# Altium integrated library Analog Devices Operational Amplifiers.IntLib: 2102 symbols (part 68 of 70)
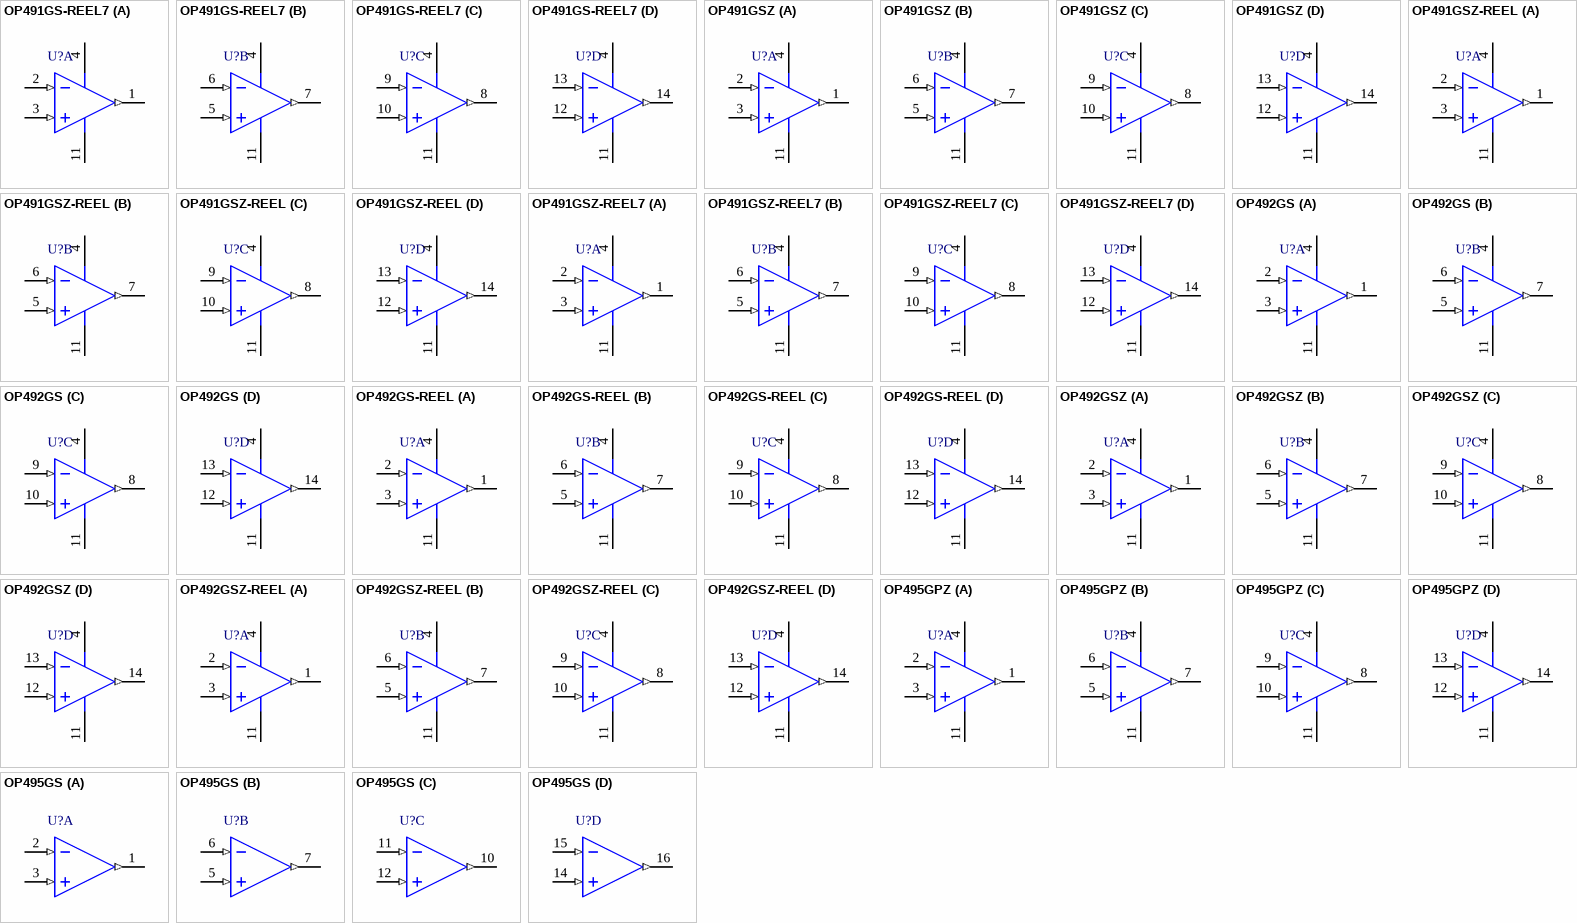
[diagram p181: symbols OP491GS-REEL7 to OP495GS]

## OP492GSZ-REEL
designator U?
Quad Channel Single-Supply Operation Operational Amplifier, 4 MHz BW, 4 V/us SR, Industrial, 14-pin SOIC (R-14), Reel; Generic Part Number: OP492; Manufacturer: Analog Devices; PartNumber: OP492GSZ-REEL; Amplifiers Per Package: 4; Input Bias Current: 375nA; Input Offset Voltage: 1.4mV; Iq/Amp: 1.4mA; Slew Rate: 4V/us; Small Signal Bandwidth: 4MHz; V Span Max: 33V; V Span Min: 4.5V; DatasheetVersion: Rev. C; PackageVersion: 060606-A; PackageReference: R-14; PackageDescription: 14-Pin Standard Small Outline Package, Body 8.65 x 3.9 mm, Pitch 1.27 mm; Supplier 1: Digi-Key; Supplier Part Number 1: OP492GSZ-REEL-ND; Mounting Technology: Surface Mount; Code_JEDEC: MS-012-AB; ComponentLink1Description: Manufacturer URL; ComponentLink1URL: http://www.analog.com/en/index.html; ComponentLink2Description: Datasheet; ComponentLink2URL: http://www.analog.com/static/imported-files/data_sheets/OP292_492.pdf; ComponentLink3Description: Package Specification; ComponentLink3URL: http://www.analog.com/static/imported-files/packages/PKG_PDF/SOIC_Narrow%20(R)/R_14.pdf
footprint ADI-R-14_N (SOIC, 14-Leads, Body 8.65x3.9mm, Pitch 1.27mm, IPC Medium Density)
footprint ADI-R-14_L (SOIC, 14-Leads, Body 8.65x3.9mm, Pitch 1.27mm, IPC High Density)
footprint ADI-R-14_M (SOIC, 14-Leads, Body 8.65x3.9mm, Pitch 1.27mm, IPC Low Density)
pins on every part: 4 +V (power), 11 -V (power)
part A pins: 1 OUT A (out), 2 -IN A (in), 3 +IN A (in)
part B pins: 5 +IN B (in), 6 -IN B (in), 7 OUT B (out)
part C pins: 8 OUT C (out), 9 -IN C (in), 10 +IN C (in)
part D pins: 12 +IN D (in), 13 -IN D (in), 14 OUT D (out)

## OP495GPZ
designator U?
Quad Channel Rail-to-Rail Operational Amplifier, 85 KHz BW, 30 mV/us SR, Industrial, 14-pin DIP (N-14), Tube; Generic Part Number: OP495; Manufacturer: Analog Devices; PartNumber: OP495GPZ; Amplifiers Per Package: 4; Input Bias Current: 20nA; Input Offset Voltage: 300uV; Iq/Amp: 175uA; Small Signal Bandwidth: 85KHz; V Span Max: 36V; V Span Min: 3V; DatasheetVersion: Rev. G; PackageVersion: 070606-A; PackageReference: N-14; PackageDescription: 14-Pin Plastic Dual In-Line Package, Row spacing 7.62 mm, Pitch 2.54 mm; Supplier 1: Digi-Key; Supplier Part Number 1: OP495GPZ-ND; Supplier 2: Farnell; Supplier Part Number 2: 1438695; Supplier 3: Newark; Supplier Part Number 3: 59K8947; Slew Rate: 30mV/us; Mounting Technology: Through Hole; Code_JEDEC: MS-001; ComponentLink1Description: Manufacturer URL; ComponentLink1URL: http://www.analog.com/en/index.html; ComponentLink2Description: Datasheet; ComponentLink2URL: http://www.analog.com/static/imported-files/data_sheets/OP295_495.pdf; ComponentLink3Description: Package Specification; ComponentLink3URL: http://www.analog.com/static/imported-files/packages/N_14.pdf
footprint ADI-N-14 (DIP, 14-Leads, Body 19.18x6.605mm, Pitch 2.54mm)
pins on every part: 4 +V (power), 11 -V (power)
part A pins: 1 OUT A (out), 2 -IN A (in), 3 +IN A (in)
part B pins: 5 +IN B (in), 6 -IN B (in), 7 OUT B (out)
part C pins: 8 OUT C (out), 9 -IN C (in), 10 +IN C (in)
part D pins: 12 +IN D (in), 13 -IN D (in), 14 OUT D (out)

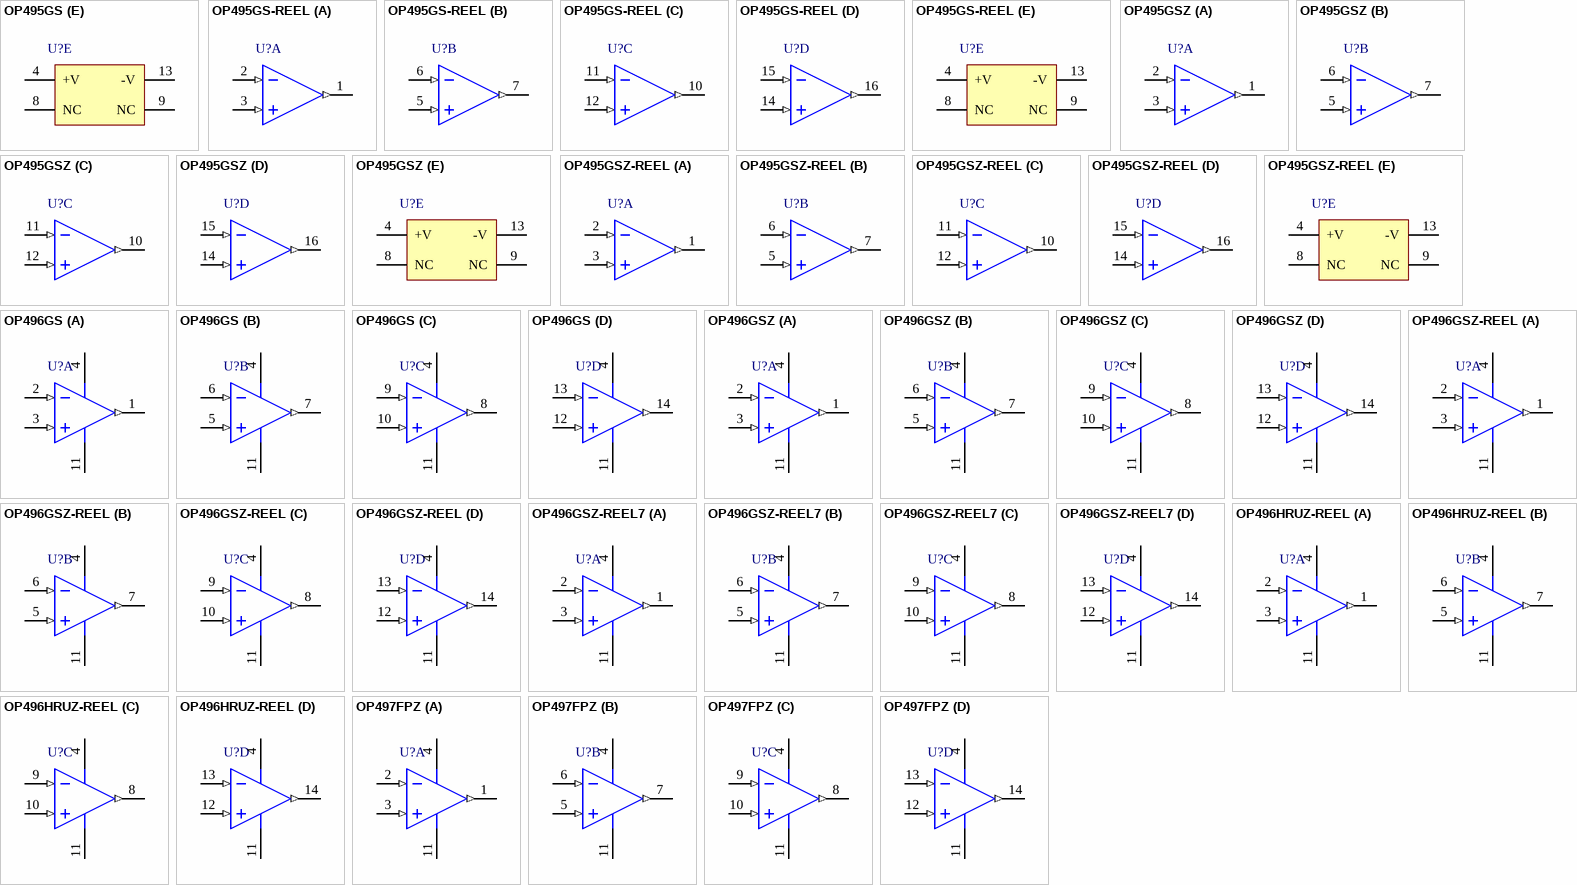
[diagram p109: symbols OP495GS to OP497FPZ]

## OP495GS
designator U?
Quad Channel Rail-to-Rail Operational Amplifier, 85 KHz BW, 30 mV/us SR, Industrial, 16-pin SOIC (RW-16), Tube; Generic Part Number: OP495; Manufacturer: Analog Devices; PartNumber: OP495GS; Amplifiers Per Package: 4; Input Bias Current: 20nA; Input Offset Voltage: 300uV; Iq/Amp: 175uA; Small Signal Bandwidth: 85KHz; V Span Max: 36V; V Span Min: 3V; DatasheetVersion: Rev. G; PackageVersion: 032707-B; PackageReference: RW-16; PackageDescription: 16-Pin Standard Small Outline Package, Body 10.3 x 7.5 mm, Pitch 1.27 mm; Supplier 1: Digi-Key; Supplier Part Number 1: OP495GS-ND; Slew Rate: 30mV/us; Mounting Technology: Surface Mount; Code_JEDEC: MS-013-AA; ComponentLink1Description: Manufacturer URL; ComponentLink1URL: http://www.analog.com/en/index.html; ComponentLink2Description: Datasheet; ComponentLink2URL: http://www.analog.com/static/imported-files/data_sheets/OP295_495.pdf; ComponentLink3Description: Package Specification; ComponentLink3URL: http://www.analog.com/static/imported-files/packages/PKG_PDF/SOIC_WIDE%20%28RW%29/RW_16.pdf
footprint ADI-RW-16_N (SOIC, 16-Leads, Body 10.3x7.5mm, Pitch 1.27mm,IPC Medium Density)
footprint ADI-RW-16_L (SOIC, 16-Leads, Body 10.3x7.5mm, Pitch 1.27mm, IPC High Density)
footprint ADI-RW-16_M (SOIC, 16-Leads, Body 10.3x7.5mm, Pitch 1.27mm, IPC Low Density)
part A pins: 1 OUT A (out), 2 -IN A (in), 3 +IN A (in)
part B pins: 5 +IN B (in), 6 -IN B (in), 7 OUT B (out)
part C pins: 10 OUT C (out), 11 -IN C (in), 12 +IN C (in)
part D pins: 14 +IN D (in), 15 -IN D (in), 16 OUT D (out)
part E pins: 4 +V (power), 8 NC, 9 NC, 13 -V (power)

## OP495GS-REEL
designator U?
Quad Channel Rail-to-Rail Operational Amplifier, 85 KHz BW, 30 mV/us SR, Industrial, 16-pin SOIC (RW-16), Reel; Generic Part Number: OP495; Manufacturer: Analog Devices; PartNumber: OP495GS-REEL; Amplifiers Per Package: 4; Input Bias Current: 20nA; Input Offset Voltage: 300uV; Iq/Amp: 175uA; Small Signal Bandwidth: 85KHz; V Span Max: 36V; V Span Min: 3V; DatasheetVersion: Rev. G; PackageVersion: 032707-B; PackageReference: RW-16; PackageDescription: 16-Pin Standard Small Outline Package, Body 10.3 x 7.5 mm, Pitch 1.27 mm; Supplier 1: Digi-Key; Supplier Part Number 1: OP495GS-REEL-ND; Supplier 2: Newark; Supplier Part Number 2: 13B4679; Slew Rate: 30mV/us; Mounting Technology: Surface Mount; Code_JEDEC: MS-013-AA; ComponentLink1Description: Manufacturer URL; ComponentLink1URL: http://www.analog.com/en/index.html; ComponentLink2Description: Datasheet; ComponentLink2URL: http://www.analog.com/static/imported-files/data_sheets/OP295_495.pdf; ComponentLink3Description: Package Specification; ComponentLink3URL: http://www.analog.com/static/imported-files/packages/PKG_PDF/SOIC_WIDE%20%28RW%29/RW_16.pdf
footprint ADI-RW-16_N (SOIC, 16-Leads, Body 10.3x7.5mm, Pitch 1.27mm,IPC Medium Density)
footprint ADI-RW-16_L (SOIC, 16-Leads, Body 10.3x7.5mm, Pitch 1.27mm, IPC High Density)
footprint ADI-RW-16_M (SOIC, 16-Leads, Body 10.3x7.5mm, Pitch 1.27mm, IPC Low Density)
part A pins: 1 OUT A (out), 2 -IN A (in), 3 +IN A (in)
part B pins: 5 +IN B (in), 6 -IN B (in), 7 OUT B (out)
part C pins: 10 OUT C (out), 11 -IN C (in), 12 +IN C (in)
part D pins: 14 +IN D (in), 15 -IN D (in), 16 OUT D (out)
part E pins: 4 +V (power), 8 NC, 9 NC, 13 -V (power)

## OP495GSZ
designator U?
Quad Channel Rail-to-Rail Operational Amplifier, 85 KHz BW, 30 mV/us SR, Industrial, 16-pin SOIC (RW-16), Tube; Generic Part Number: OP495; Manufacturer: Analog Devices; PartNumber: OP495GSZ; Amplifiers Per Package: 4; Input Bias Current: 20nA; Input Offset Voltage: 300uV; Iq/Amp: 175uA; Small Signal Bandwidth: 85KHz; V Span Max: 36V; V Span Min: 3V; DatasheetVersion: Rev. G; PackageVersion: 032707-B; PackageReference: RW-16; PackageDescription: 16-Pin Standard Small Outline Package, Body 10.3 x 7.5 mm, Pitch 1.27 mm; Supplier 1: Digi-Key; Supplier Part Number 1: OP495GSZ-ND; Supplier 2: Farnell; Supplier Part Number 2: 1319511; Supplier 3: Newark; Supplier Part Number 3: 19M8990; Slew Rate: 30mV/us; Mounting Technology: Surface Mount; Code_JEDEC: MS-013-AA; ComponentLink1Description: Manufacturer URL; ComponentLink1URL: http://www.analog.com/en/index.html; ComponentLink2Description: Datasheet; ComponentLink2URL: http://www.analog.com/static/imported-files/data_sheets/OP295_495.pdf; ComponentLink3Description: Package Specification; ComponentLink3URL: http://www.analog.com/static/imported-files/packages/PKG_PDF/SOIC_WIDE%20%28RW%29/RW_16.pdf
footprint ADI-RW-16_N (SOIC, 16-Leads, Body 10.3x7.5mm, Pitch 1.27mm,IPC Medium Density)
footprint ADI-RW-16_L (SOIC, 16-Leads, Body 10.3x7.5mm, Pitch 1.27mm, IPC High Density)
footprint ADI-RW-16_M (SOIC, 16-Leads, Body 10.3x7.5mm, Pitch 1.27mm, IPC Low Density)
part A pins: 1 OUT A (out), 2 -IN A (in), 3 +IN A (in)
part B pins: 5 +IN B (in), 6 -IN B (in), 7 OUT B (out)
part C pins: 10 OUT C (out), 11 -IN C (in), 12 +IN C (in)
part D pins: 14 +IN D (in), 15 -IN D (in), 16 OUT D (out)
part E pins: 4 +V (power), 8 NC, 9 NC, 13 -V (power)

## OP495GSZ-REEL
designator U?
Quad Channel Rail-to-Rail Operational Amplifier, 85 KHz BW, 30 mV/us SR, Industrial, 16-pin SOIC (RW-16), Reel; Generic Part Number: OP495; Manufacturer: Analog Devices; PartNumber: OP495GSZ-REEL; Amplifiers Per Package: 4; Input Bias Current: 20nA; Input Offset Voltage: 300uV; Iq/Amp: 175uA; Small Signal Bandwidth: 85KHz; V Span Max: 36V; V Span Min: 3V; DatasheetVersion: Rev. G; PackageVersion: 032707-B; PackageReference: RW-16; PackageDescription: 16-Pin Standard Small Outline Package, Body 10.3 x 7.5 mm, Pitch 1.27 mm; Supplier 1: Digi-Key; Supplier Part Number 1: OP495GSZ-REEL-ND; Supplier 2: Newark; Supplier Part Number 2: 88H0679; Slew Rate: 30mV/us; Mounting Technology: Surface Mount; Code_JEDEC: MS-013-AA; ComponentLink1Description: Manufacturer URL; ComponentLink1URL: http://www.analog.com/en/index.html; ComponentLink2Description: Datasheet; ComponentLink2URL: http://www.analog.com/static/imported-files/data_sheets/OP295_495.pdf; ComponentLink3Description: Package Specification; ComponentLink3URL: http://www.analog.com/static/imported-files/packages/PKG_PDF/SOIC_WIDE%20%28RW%29/RW_16.pdf
footprint ADI-RW-16_N (SOIC, 16-Leads, Body 10.3x7.5mm, Pitch 1.27mm,IPC Medium Density)
footprint ADI-RW-16_L (SOIC, 16-Leads, Body 10.3x7.5mm, Pitch 1.27mm, IPC High Density)
footprint ADI-RW-16_M (SOIC, 16-Leads, Body 10.3x7.5mm, Pitch 1.27mm, IPC Low Density)
part A pins: 1 OUT A (out), 2 -IN A (in), 3 +IN A (in)
part B pins: 5 +IN B (in), 6 -IN B (in), 7 OUT B (out)
part C pins: 10 OUT C (out), 11 -IN C (in), 12 +IN C (in)
part D pins: 14 +IN D (in), 15 -IN D (in), 16 OUT D (out)
part E pins: 4 +V (power), 8 NC, 9 NC, 13 -V (power)

## OP496GS
designator U?
Quad Channel Rail-to-Rail Operational Amplifier, 450 KHz BW, 300 mV/us SR, Industrial, 14-pin SOIC (R-14), Tube; Generic Part Number: OP496; Manufacturer: Analog Devices; PartNumber: OP496GS; Amplifiers Per Package: 4; Input Bias Current: 10nA; Input Offset Voltage: 35uV; Iq/Amp: 60uA; Small Signal Bandwidth: 450KHz; V Span Max: 12V; V Span Min: 3V; DatasheetVersion: Rev. E; PackageVersion: 060606-A; PackageReference: R-14; PackageDescription: 14-Pin Standard Small Outline Package, Body 8.65 x 3.9 mm, Pitch 1.27 mm; Supplier 1: Digi-Key; Supplier Part Number 1: OP496GS-ND; Slew Rate: 300mV/us; Mounting Technology: Surface Mount; Code_JEDEC: MS-012-AB; ComponentLink1Description: Manufacturer URL; ComponentLink1URL: http://www.analog.com/en/index.html; ComponentLink2Description: Datasheet; ComponentLink2URL: http://www.analog.com/static/imported-files/data_sheets/OP196_296_496.pdf; ComponentLink3Description: Package Specification; ComponentLink3URL: http://www.analog.com/static/imported-files/packages/PKG_PDF/SOIC_Narrow%20(R)/R_14.pdf
footprint ADI-R-14_N (SOIC, 14-Leads, Body 8.65x3.9mm, Pitch 1.27mm, IPC Medium Density)
footprint ADI-R-14_L (SOIC, 14-Leads, Body 8.65x3.9mm, Pitch 1.27mm, IPC High Density)
footprint ADI-R-14_M (SOIC, 14-Leads, Body 8.65x3.9mm, Pitch 1.27mm, IPC Low Density)
pins on every part: 4 +V (power), 11 -V (power)
part A pins: 1 OUT A (out), 2 -IN A (in), 3 +IN A (in)
part B pins: 5 +IN B (in), 6 -IN B (in), 7 OUT B (out)
part C pins: 8 OUT C (out), 9 -IN C (in), 10 +IN C (in)
part D pins: 12 +IN D (in), 13 -IN D (in), 14 OUT D (out)

## OP496GSZ
designator U?
Quad Channel Rail-to-Rail Operational Amplifier, 450 KHz BW, 300 mV/us SR, Industrial, 14-pin SOIC (R-14), Tube; Generic Part Number: OP496; Manufacturer: Analog Devices; PartNumber: OP496GSZ; Amplifiers Per Package: 4; Input Bias Current: 10nA; Input Offset Voltage: 35uV; Iq/Amp: 60uA; Small Signal Bandwidth: 450KHz; V Span Max: 12V; V Span Min: 3V; DatasheetVersion: Rev. E; PackageVersion: 060606-A; PackageReference: R-14; PackageDescription: 14-Pin Standard Small Outline Package, Body 8.65 x 3.9 mm, Pitch 1.27 mm; Supplier 1: Digi-Key; Supplier Part Number 1: OP496GSZ-ND; Supplier 2: Farnell; Supplier Part Number 2: 1439001; Supplier 3: Newark; Supplier Part Number 3: 59K8948; Slew Rate: 300mV/us; Mounting Technology: Surface Mount; Code_JEDEC: MS-012-AB; ComponentLink1Description: Manufacturer URL; ComponentLink1URL: http://www.analog.com/en/index.html; ComponentLink2Description: Datasheet; ComponentLink2URL: http://www.analog.com/static/imported-files/data_sheets/OP196_296_496.pdf; ComponentLink3Description: Package Specification; ComponentLink3URL: http://www.analog.com/static/imported-files/packages/PKG_PDF/SOIC_Narrow%20(R)/R_14.pdf
footprint ADI-R-14_N (SOIC, 14-Leads, Body 8.65x3.9mm, Pitch 1.27mm, IPC Medium Density)
footprint ADI-R-14_L (SOIC, 14-Leads, Body 8.65x3.9mm, Pitch 1.27mm, IPC High Density)
footprint ADI-R-14_M (SOIC, 14-Leads, Body 8.65x3.9mm, Pitch 1.27mm, IPC Low Density)
pins on every part: 4 +V (power), 11 -V (power)
part A pins: 1 OUT A (out), 2 -IN A (in), 3 +IN A (in)
part B pins: 5 +IN B (in), 6 -IN B (in), 7 OUT B (out)
part C pins: 8 OUT C (out), 9 -IN C (in), 10 +IN C (in)
part D pins: 12 +IN D (in), 13 -IN D (in), 14 OUT D (out)

## OP496GSZ-REEL
designator U?
Quad Channel Rail-to-Rail Operational Amplifier, 450 KHz BW, 300 mV/us SR, Industrial, 14-pin SOIC (R-14), Reel; Generic Part Number: OP496; Manufacturer: Analog Devices; PartNumber: OP496GSZ-REEL; Amplifiers Per Package: 4; Input Bias Current: 10nA; Input Offset Voltage: 35uV; Iq/Amp: 60uA; Small Signal Bandwidth: 450KHz; V Span Max: 12V; V Span Min: 3V; DatasheetVersion: Rev. E; PackageVersion: 060606-A; PackageReference: R-14; PackageDescription: 14-Pin Standard Small Outline Package, Body 8.65 x 3.9 mm, Pitch 1.27 mm; Supplier 1: Digi-Key; Supplier Part Number 1: OP496GSZ-REEL-ND; Supplier 2: Newark; Supplier Part Number 2: 88H0680; Slew Rate: 300mV/us; Mounting Technology: Surface Mount; Code_JEDEC: MS-012-AB; ComponentLink1Description: Manufacturer URL; ComponentLink1URL: http://www.analog.com/en/index.html; ComponentLink2Description: Datasheet; ComponentLink2URL: http://www.analog.com/static/imported-files/data_sheets/OP196_296_496.pdf; ComponentLink3Description: Package Specification; ComponentLink3URL: http://www.analog.com/static/imported-files/packages/PKG_PDF/SOIC_Narrow%20(R)/R_14.pdf
footprint ADI-R-14_N (SOIC, 14-Leads, Body 8.65x3.9mm, Pitch 1.27mm, IPC Medium Density)
footprint ADI-R-14_L (SOIC, 14-Leads, Body 8.65x3.9mm, Pitch 1.27mm, IPC High Density)
footprint ADI-R-14_M (SOIC, 14-Leads, Body 8.65x3.9mm, Pitch 1.27mm, IPC Low Density)
pins on every part: 4 +V (power), 11 -V (power)
part A pins: 1 OUT A (out), 2 -IN A (in), 3 +IN A (in)
part B pins: 5 +IN B (in), 6 -IN B (in), 7 OUT B (out)
part C pins: 8 OUT C (out), 9 -IN C (in), 10 +IN C (in)
part D pins: 12 +IN D (in), 13 -IN D (in), 14 OUT D (out)

## OP496GSZ-REEL7
designator U?
Quad Channel Rail-to-Rail Operational Amplifier, 450 KHz BW, 300 mV/us SR, Industrial, 14-pin SOIC (R-14), Reel; Generic Part Number: OP496; Manufacturer: Analog Devices; PartNumber: OP496GSZ-REEL7; Amplifiers Per Package: 4; Input Bias Current: 10nA; Input Offset Voltage: 35uV; Iq/Amp: 60uA; Small Signal Bandwidth: 450KHz; V Span Max: 12V; V Span Min: 3V; DatasheetVersion: Rev. E; PackageVersion: 060606-A; PackageReference: R-14; PackageDescription: 14-Pin Standard Small Outline Package, Body 8.65 x 3.9 mm, Pitch 1.27 mm; Supplier 1: Digi-Key; Supplier Part Number 1: OP496GSZ-REEL7TR-ND; Supplier 2: Digi-Key; Supplier Part Number 2: OP496GSZ-REEL7CT-ND; Supplier 3: Digi-Key; Supplier Part Number 3: OP496GSZ-REEL7DKR-ND; Supplier 4: Newark; Supplier Part Number 4: 59K8949; Slew Rate: 300mV/us; Mounting Technology: Surface Mount; Code_JEDEC: MS-012-AB; ComponentLink1Description: Manufacturer URL; ComponentLink1URL: http://www.analog.com/en/index.html; ComponentLink2Description: Datasheet; ComponentLink2URL: http://www.analog.com/static/imported-files/data_sheets/OP196_296_496.pdf; ComponentLink3Description: Package Specification; ComponentLink3URL: http://www.analog.com/static/imported-files/packages/PKG_PDF/SOIC_Narrow%20(R)/R_14.pdf
footprint ADI-R-14_N (SOIC, 14-Leads, Body 8.65x3.9mm, Pitch 1.27mm, IPC Medium Density)
footprint ADI-R-14_L (SOIC, 14-Leads, Body 8.65x3.9mm, Pitch 1.27mm, IPC High Density)
footprint ADI-R-14_M (SOIC, 14-Leads, Body 8.65x3.9mm, Pitch 1.27mm, IPC Low Density)
pins on every part: 4 +V (power), 11 -V (power)
part A pins: 1 OUT A (out), 2 -IN A (in), 3 +IN A (in)
part B pins: 5 +IN B (in), 6 -IN B (in), 7 OUT B (out)
part C pins: 8 OUT C (out), 9 -IN C (in), 10 +IN C (in)
part D pins: 12 +IN D (in), 13 -IN D (in), 14 OUT D (out)

## OP496HRUZ-REEL
designator U?
Quad Channel Rail-to-Rail Operational Amplifier, 450 KHz BW, 300 mV/us SR, Industrial, 14-pin SOP (RU-14), Reel; Generic Part Number: OP496; Manufacturer: Analog Devices; PartNumber: OP496HRUZ-REEL; Amplifiers Per Package: 4; Input Bias Current: 10nA; Input Offset Voltage: 35uV; Iq/Amp: 60uA; Small Signal Bandwidth: 450KHz; V Span Max: 12V; V Span Min: 3V; DatasheetVersion: Rev. E; PackageReference: RU-14; PackageDescription: 14-Pin Thin Shrink Small Outline Package, Body 5 x 4.4 mm, Pitch 0.65 mm; Supplier 1: Digi-Key; Supplier Part Number 1: OP496HRUZ-REELTR-ND; Supplier 2: Digi-Key; Supplier Part Number 2: OP496HRUZ-REELCT-ND; Supplier 3: Digi-Key; Supplier Part Number 3: OP496HRUZ-REELDKR-ND; Supplier 4: Newark; Supplier Part Number 4: 67W2762; Supplier 5: Newark; Supplier Part Number 5: 59K8950; Slew Rate: 300mV/us; Mounting Technology: Surface Mount; Code_JEDEC: MO-153AB-1; ComponentLink1Description: Manufacturer URL; ComponentLink1URL: http://www.analog.com/en/index.html; ComponentLink2Description: Datasheet; ComponentLink2URL: http://www.analog.com/static/imported-files/data_sheets/OP196_296_496.pdf; ComponentLink3Description: Package Specification; ComponentLink3URL: http://www.analog.com/static/imported-files/packages/36057385283879153717235186773RU14.pdf
footprint ADI-RU-14_N (SOP, 14-Leads, Body 5x4.4mm, Pitch 0.65mm, IPC Medium Density)
footprint ADI-RU-14_L (SOP, 14-Leads, Body 5x4.4mm, Pitch 0.65mm, IPC High Density)
footprint ADI-RU-14_M (SOP, 14-Leads, Body 5x4.4mm, Pitch 0.65mm, IPC Low Density)
pins on every part: 4 +V (power), 11 -V (power)
part A pins: 1 OUT A (out), 2 -IN A (in), 3 +IN A (in)
part B pins: 5 +IN B (in), 6 -IN B (in), 7 OUT B (out)
part C pins: 8 OUT C (out), 9 -IN C (in), 10 +IN C (in)
part D pins: 12 +IN D (in), 13 -IN D (in), 14 OUT D (out)

## OP497FPZ
designator U?
Quad Channel Very Low Bias Current Operational Amplifier, 500 KHz BW, 150 mV/us SR, Industrial, 14-pin DIP (N-14), Tube; Generic Part Number: OP497; Manufacturer: Analog Devices; PartNumber: OP497FPZ; Amplifiers Per Package: 4; Input Bias Current: 60pA; Input Offset Voltage: 80uV; Iq/Amp: 625uA; Small Signal Bandwidth: 500KHz; V Span Max: 40V; V Span Min: 4V; DatasheetVersion: Rev. E; PackageVersion: 070606-A; PackageReference: N-14; PackageDescription: 14-Pin Plastic Dual In-Line Package, Row spacing 7.62 mm, Pitch 2.54 mm; Supplier 1: Digi-Key; Supplier Part Number 1: OP497FPZ-ND; Supplier 2: Newark; Supplier Part Number 2: 59K8951; Packing: Tube; Slew Rate: 150mV/us; Mounting Technology: Through Hole; Code_JEDEC: MS-001; ComponentLink1Description: Manufacturer URL; ComponentLink1URL: http://www.analog.com/en/index.html; ComponentLink2Description: Datasheet; ComponentLink2URL: http://www.analog.com/static/imported-files/data_sheets/OP497.pdf; ComponentLink3Description: Package Specification; ComponentLink3URL: http://www.analog.com/static/imported-files/packages/N_14.pdf
footprint ADI-N-14 (DIP, 14-Leads, Body 19.18x6.605mm, Pitch 2.54mm)
pins on every part: 4 +V (power), 11 -V (power)
part A pins: 1 OUT A (out), 2 -IN A (in), 3 +IN A (in)
part B pins: 5 +IN B (in), 6 -IN B (in), 7 OUT B (out)
part C pins: 8 OUT C (out), 9 -IN C (in), 10 +IN C (in)
part D pins: 12 +IN D (in), 13 -IN D (in), 14 OUT D (out)

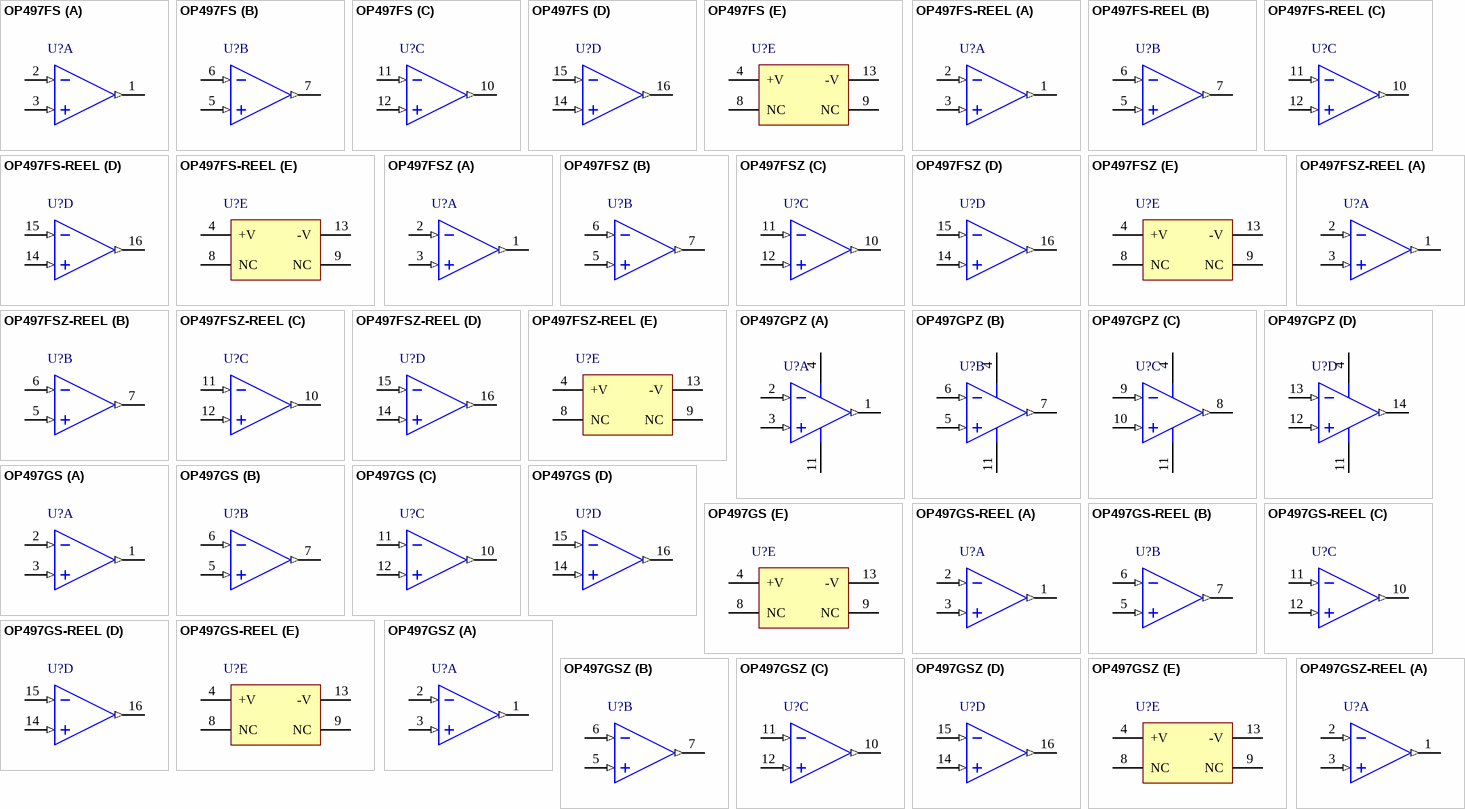
[diagram p110: symbols OP497FS to OP497GSZ-REEL]

## OP497FS
designator U?
Quad Channel Very Low Bias Current Operational Amplifier, 500 KHz BW, 150 mV/us SR, Industrial, 16-pin SOIC (RW-16), Tube; Generic Part Number: OP497; Manufacturer: Analog Devices; PartNumber: OP497FS; Amplifiers Per Package: 4; Input Bias Current: 60pA; Input Offset Voltage: 80uV; Iq/Amp: 625uA; Small Signal Bandwidth: 500KHz; V Span Max: 40V; V Span Min: 4V; DatasheetVersion: Rev. E; PackageVersion: 032707-B; PackageReference: RW-16; PackageDescription: 16-Pin Standard Small Outline Package, Body 10.3 x 7.5 mm, Pitch 1.27 mm; Supplier 1: Digi-Key; Supplier Part Number 1: OP497FS-ND; Packing: Tube; Slew Rate: 150mV/us; Mounting Technology: Surface Mount; Code_JEDEC: MS-013-AA; ComponentLink1Description: Manufacturer URL; ComponentLink1URL: http://www.analog.com/en/index.html; ComponentLink2Description: Datasheet; ComponentLink2URL: http://www.analog.com/static/imported-files/data_sheets/OP497.pdf; ComponentLink3Description: Package Specification; ComponentLink3URL: http://www.analog.com/static/imported-files/packages/PKG_PDF/SOIC_WIDE%20%28RW%29/RW_16.pdf
footprint ADI-RW-16_N (SOIC, 16-Leads, Body 10.3x7.5mm, Pitch 1.27mm,IPC Medium Density)
footprint ADI-RW-16_L (SOIC, 16-Leads, Body 10.3x7.5mm, Pitch 1.27mm, IPC High Density)
footprint ADI-RW-16_M (SOIC, 16-Leads, Body 10.3x7.5mm, Pitch 1.27mm, IPC Low Density)
part A pins: 1 OUT A (out), 2 -IN A (in), 3 +IN A (in)
part B pins: 5 +IN B (in), 6 -IN B (in), 7 OUT B (out)
part C pins: 10 OUT C (out), 11 -IN C (in), 12 +IN C (in)
part D pins: 14 +IN D (in), 15 -IN D (in), 16 OUT D (out)
part E pins: 4 +V (power), 8 NC, 9 NC, 13 -V (power)

## OP497FS-REEL
designator U?
Quad Channel Very Low Bias Current Operational Amplifier, 500 KHz BW, 150 mV/us SR, Industrial, 16-pin SOIC (RW-16), Reel; Generic Part Number: OP497; Manufacturer: Analog Devices; PartNumber: OP497FS-REEL; Amplifiers Per Package: 4; Input Bias Current: 60pA; Input Offset Voltage: 80uV; Iq/Amp: 625uA; Small Signal Bandwidth: 500KHz; V Span Max: 40V; V Span Min: 4V; DatasheetVersion: Rev. E; PackageVersion: 032707-B; PackageReference: RW-16; PackageDescription: 16-Pin Standard Small Outline Package, Body 10.3 x 7.5 mm, Pitch 1.27 mm; Supplier 1: Digi-Key; Supplier Part Number 1: OP497FS-REEL-ND; Supplier 2: Newark; Supplier Part Number 2: 02H2608; Packing: Reel; Slew Rate: 150mV/us; Mounting Technology: Surface Mount; Code_JEDEC: MS-013-AA; ComponentLink1Description: Manufacturer URL; ComponentLink1URL: http://www.analog.com/en/index.html; ComponentLink2Description: Datasheet; ComponentLink2URL: http://www.analog.com/static/imported-files/data_sheets/OP497.pdf; ComponentLink3Description: Package Specification; ComponentLink3URL: http://www.analog.com/static/imported-files/packages/PKG_PDF/SOIC_WIDE%20%28RW%29/RW_16.pdf
footprint ADI-RW-16_N (SOIC, 16-Leads, Body 10.3x7.5mm, Pitch 1.27mm,IPC Medium Density)
footprint ADI-RW-16_L (SOIC, 16-Leads, Body 10.3x7.5mm, Pitch 1.27mm, IPC High Density)
footprint ADI-RW-16_M (SOIC, 16-Leads, Body 10.3x7.5mm, Pitch 1.27mm, IPC Low Density)
part A pins: 1 OUT A (out), 2 -IN A (in), 3 +IN A (in)
part B pins: 5 +IN B (in), 6 -IN B (in), 7 OUT B (out)
part C pins: 10 OUT C (out), 11 -IN C (in), 12 +IN C (in)
part D pins: 14 +IN D (in), 15 -IN D (in), 16 OUT D (out)
part E pins: 4 +V (power), 8 NC, 9 NC, 13 -V (power)

## OP497FSZ
designator U?
Quad Channel Very Low Bias Current Operational Amplifier, 500 KHz BW, 150 mV/us SR, Industrial, 16-pin SOIC (RW-16), Tube; Generic Part Number: OP497; Manufacturer: Analog Devices; PartNumber: OP497FSZ; Amplifiers Per Package: 4; Input Bias Current: 40pA; Input Offset Voltage: 50uV; Iq/Amp: 625uA; Small Signal Bandwidth: 500KHz; V Span Max: 40V; V Span Min: 4V; DatasheetVersion: Rev. E; PackageVersion: 032707-B; PackageReference: RW-16; PackageDescription: 16-Pin Standard Small Outline Package, Body 10.3 x 7.5 mm, Pitch 1.27 mm; Supplier 1: Digi-Key; Supplier Part Number 1: OP497FSZ-ND; Supplier 2: Farnell; Supplier Part Number 2: 1319512; Supplier 3: Newark; Supplier Part Number 3: 19M8991; Packing: Tube; Slew Rate: 150mV/us; Mounting Technology: Surface Mount; Code_JEDEC: MS-013-AA; ComponentLink1Description: Manufacturer URL; ComponentLink1URL: http://www.analog.com/en/index.html; ComponentLink2Description: Datasheet; ComponentLink2URL: http://www.analog.com/static/imported-files/data_sheets/OP497.pdf; ComponentLink3Description: Package Specification; ComponentLink3URL: http://www.analog.com/static/imported-files/packages/PKG_PDF/SOIC_WIDE%20%28RW%29/RW_16.pdf
footprint ADI-RW-16_N (SOIC, 16-Leads, Body 10.3x7.5mm, Pitch 1.27mm,IPC Medium Density)
footprint ADI-RW-16_L (SOIC, 16-Leads, Body 10.3x7.5mm, Pitch 1.27mm, IPC High Density)
footprint ADI-RW-16_M (SOIC, 16-Leads, Body 10.3x7.5mm, Pitch 1.27mm, IPC Low Density)
part A pins: 1 OUT A (out), 2 -IN A (in), 3 +IN A (in)
part B pins: 5 +IN B (in), 6 -IN B (in), 7 OUT B (out)
part C pins: 10 OUT C (out), 11 -IN C (in), 12 +IN C (in)
part D pins: 14 +IN D (in), 15 -IN D (in), 16 OUT D (out)
part E pins: 4 +V (power), 8 NC, 9 NC, 13 -V (power)

## OP497FSZ-REEL
designator U?
Quad Channel Very Low Bias Current Operational Amplifier, 500 KHz BW, 150 mV/us SR, Industrial, 16-pin SOIC (RW-16), Reel; Generic Part Number: OP497; Manufacturer: Analog Devices; PartNumber: OP497FSZ-REEL; Amplifiers Per Package: 4; Input Bias Current: 60pA; Input Offset Voltage: 80uV; Iq/Amp: 625uA; Small Signal Bandwidth: 500KHz; V Span Max: 40V; V Span Min: 4V; DatasheetVersion: Rev. E; PackageVersion: 032707-B; PackageReference: RW-16; PackageDescription: 16-Pin Standard Small Outline Package, Body 10.3 x 7.5 mm, Pitch 1.27 mm; Supplier 1: Digi-Key; Supplier Part Number 1: OP497FSZ-REEL-ND; Supplier 2: Newark; Supplier Part Number 2: 59K8953; Packing: Reel; Slew Rate: 150mV/us; Mounting Technology: Surface Mount; Code_JEDEC: MS-013-AA; ComponentLink1Description: Manufacturer URL; ComponentLink1URL: http://www.analog.com/en/index.html; ComponentLink2Description: Datasheet; ComponentLink2URL: http://www.analog.com/static/imported-files/data_sheets/OP497.pdf; ComponentLink3Description: Package Specification; ComponentLink3URL: http://www.analog.com/static/imported-files/packages/PKG_PDF/SOIC_WIDE%20%28RW%29/RW_16.pdf
footprint ADI-RW-16_N (SOIC, 16-Leads, Body 10.3x7.5mm, Pitch 1.27mm,IPC Medium Density)
footprint ADI-RW-16_L (SOIC, 16-Leads, Body 10.3x7.5mm, Pitch 1.27mm, IPC High Density)
footprint ADI-RW-16_M (SOIC, 16-Leads, Body 10.3x7.5mm, Pitch 1.27mm, IPC Low Density)
part A pins: 1 OUT A (out), 2 -IN A (in), 3 +IN A (in)
part B pins: 5 +IN B (in), 6 -IN B (in), 7 OUT B (out)
part C pins: 10 OUT C (out), 11 -IN C (in), 12 +IN C (in)
part D pins: 14 +IN D (in), 15 -IN D (in), 16 OUT D (out)
part E pins: 4 +V (power), 8 NC, 9 NC, 13 -V (power)

## OP497GPZ
designator U?
Quad Channel Very Low Bias Current Operational Amplifier, 500 KHz BW, 150 mV/us SR, Industrial, 14-pin DIP (N-14), Tube; Generic Part Number: OP497; Manufacturer: Analog Devices; PartNumber: OP497GPZ; Amplifiers Per Package: 4; Input Bias Current: 60pA; Input Offset Voltage: 80uV; Iq/Amp: 625uA; Small Signal Bandwidth: 500KHz; V Span Max: 40V; V Span Min: 4V; DatasheetVersion: Rev. E; PackageVersion: 070606-A; PackageReference: N-14; PackageDescription: 14-Pin Plastic Dual In-Line Package, Row spacing 7.62 mm, Pitch 2.54 mm; Supplier 1: Digi-Key; Supplier Part Number 1: OP497GPZ-ND; Supplier 2: Farnell; Supplier Part Number 2: 9605266; Supplier 3: Newark; Supplier Part Number 3: 59K8954; Packing: Tube; Slew Rate: 150mV/us; Mounting Technology: Through Hole; Code_JEDEC: MS-001; ComponentLink1Description: Manufacturer URL; ComponentLink1URL: http://www.analog.com/en/index.html; ComponentLink2Description: Datasheet; ComponentLink2URL: http://www.analog.com/static/imported-files/data_sheets/OP497.pdf; ComponentLink3Description: Package Specification; ComponentLink3URL: http://www.analog.com/static/imported-files/packages/N_14.pdf
footprint ADI-N-14 (DIP, 14-Leads, Body 19.18x6.605mm, Pitch 2.54mm)
pins on every part: 4 +V (power), 11 -V (power)
part A pins: 1 OUT A (out), 2 -IN A (in), 3 +IN A (in)
part B pins: 5 +IN B (in), 6 -IN B (in), 7 OUT B (out)
part C pins: 8 OUT C (out), 9 -IN C (in), 10 +IN C (in)
part D pins: 12 +IN D (in), 13 -IN D (in), 14 OUT D (out)

## OP497GS
designator U?
Quad Channel Very Low Bias Current Operational Amplifier, 500 KHz BW, 150 mV/us SR, Industrial, 16-pin SOIC (RW-16), Tube; Generic Part Number: OP497; Manufacturer: Analog Devices; PartNumber: OP497GS; Amplifiers Per Package: 4; Input Bias Current: 60pA; Input Offset Voltage: 80uV; Iq/Amp: 625uA; Small Signal Bandwidth: 500KHz; V Span Max: 40V; V Span Min: 4V; DatasheetVersion: Rev. E; PackageVersion: 032707-B; PackageReference: RW-16; PackageDescription: 16-Pin Standard Small Outline Package, Body 10.3 x 7.5 mm, Pitch 1.27 mm; Supplier 1: Digi-Key; Supplier Part Number 1: OP497GS-ND; Packing: Tube; Slew Rate: 150mV/us; Mounting Technology: Surface Mount; Code_JEDEC: MS-013-AA; ComponentLink1Description: Manufacturer URL; ComponentLink1URL: http://www.analog.com/en/index.html; ComponentLink2Description: Datasheet; ComponentLink2URL: http://www.analog.com/static/imported-files/data_sheets/OP497.pdf; ComponentLink3Description: Package Specification; ComponentLink3URL: http://www.analog.com/static/imported-files/packages/PKG_PDF/SOIC_WIDE%20%28RW%29/RW_16.pdf
footprint ADI-RW-16_N (SOIC, 16-Leads, Body 10.3x7.5mm, Pitch 1.27mm,IPC Medium Density)
footprint ADI-RW-16_L (SOIC, 16-Leads, Body 10.3x7.5mm, Pitch 1.27mm, IPC High Density)
footprint ADI-RW-16_M (SOIC, 16-Leads, Body 10.3x7.5mm, Pitch 1.27mm, IPC Low Density)
part A pins: 1 OUT A (out), 2 -IN A (in), 3 +IN A (in)
part B pins: 5 +IN B (in), 6 -IN B (in), 7 OUT B (out)
part C pins: 10 OUT C (out), 11 -IN C (in), 12 +IN C (in)
part D pins: 14 +IN D (in), 15 -IN D (in), 16 OUT D (out)
part E pins: 4 +V (power), 8 NC, 9 NC, 13 -V (power)

## OP497GS-REEL
designator U?
Quad Channel Very Low Bias Current Operational Amplifier, 500 KHz BW, 150 mV/us SR, Industrial, 16-pin SOIC (RW-16), Reel; Generic Part Number: OP497; Manufacturer: Analog Devices; PartNumber: OP497GS-REEL; Amplifiers Per Package: 4; Input Bias Current: 60pA; Input Offset Voltage: 80uV; Iq/Amp: 625uA; Small Signal Bandwidth: 500KHz; V Span Max: 40V; V Span Min: 4V; DatasheetVersion: Rev. E; PackageVersion: 032707-B; PackageReference: RW-16; PackageDescription: 16-Pin Standard Small Outline Package, Body 10.3 x 7.5 mm, Pitch 1.27 mm; Supplier 1: Digi-Key; Supplier Part Number 1: OP497GS-REEL-ND; Supplier 2: Newark; Supplier Part Number 2: 88H0681; Packing: Reel; Slew Rate: 150mV/us; Mounting Technology: Surface Mount; Code_JEDEC: MS-013-AA; ComponentLink1Description: Manufacturer URL; ComponentLink1URL: http://www.analog.com/en/index.html; ComponentLink2Description: Datasheet; ComponentLink2URL: http://www.analog.com/static/imported-files/data_sheets/OP497.pdf; ComponentLink3Description: Package Specification; ComponentLink3URL: http://www.analog.com/static/imported-files/packages/PKG_PDF/SOIC_WIDE%20%28RW%29/RW_16.pdf
footprint ADI-RW-16_N (SOIC, 16-Leads, Body 10.3x7.5mm, Pitch 1.27mm,IPC Medium Density)
footprint ADI-RW-16_L (SOIC, 16-Leads, Body 10.3x7.5mm, Pitch 1.27mm, IPC High Density)
footprint ADI-RW-16_M (SOIC, 16-Leads, Body 10.3x7.5mm, Pitch 1.27mm, IPC Low Density)
part A pins: 1 OUT A (out), 2 -IN A (in), 3 +IN A (in)
part B pins: 5 +IN B (in), 6 -IN B (in), 7 OUT B (out)
part C pins: 10 OUT C (out), 11 -IN C (in), 12 +IN C (in)
part D pins: 14 +IN D (in), 15 -IN D (in), 16 OUT D (out)
part E pins: 4 +V (power), 8 NC, 9 NC, 13 -V (power)

## OP497GSZ
designator U?
Quad Channel Very Low Bias Current Operational Amplifier, 500 KHz BW, 150 mV/us SR, Industrial, 16-pin SOIC (RW-16), Tube; Generic Part Number: OP497; Manufacturer: Analog Devices; PartNumber: OP497GSZ; Amplifiers Per Package: 4; Input Bias Current: 60pA; Input Offset Voltage: 80uV; Iq/Amp: 625uA; Small Signal Bandwidth: 500KHz; V Span Max: 40V; V Span Min: 4V; DatasheetVersion: Rev. E; PackageVersion: 032707-B; PackageReference: RW-16; PackageDescription: 16-Pin Standard Small Outline Package, Body 10.3 x 7.5 mm, Pitch 1.27 mm; Supplier 1: Digi-Key; Supplier Part Number 1: OP497GSZ-ND; Supplier 2: Farnell; Supplier Part Number 2: 1661008; Supplier 3: Newark; Supplier Part Number 3: 19M8992; Packing: Tube; Slew Rate: 150mV/us; Mounting Technology: Surface Mount; Code_JEDEC: MS-013-AA; ComponentLink1Description: Manufacturer URL; ComponentLink1URL: http://www.analog.com/en/index.html; ComponentLink2Description: Datasheet; ComponentLink2URL: http://www.analog.com/static/imported-files/data_sheets/OP497.pdf; ComponentLink3Description: Package Specification; ComponentLink3URL: http://www.analog.com/static/imported-files/packages/PKG_PDF/SOIC_WIDE%20%28RW%29/RW_16.pdf
footprint ADI-RW-16_N (SOIC, 16-Leads, Body 10.3x7.5mm, Pitch 1.27mm,IPC Medium Density)
footprint ADI-RW-16_L (SOIC, 16-Leads, Body 10.3x7.5mm, Pitch 1.27mm, IPC High Density)
footprint ADI-RW-16_M (SOIC, 16-Leads, Body 10.3x7.5mm, Pitch 1.27mm, IPC Low Density)
part A pins: 1 OUT A (out), 2 -IN A (in), 3 +IN A (in)
part B pins: 5 +IN B (in), 6 -IN B (in), 7 OUT B (out)
part C pins: 10 OUT C (out), 11 -IN C (in), 12 +IN C (in)
part D pins: 14 +IN D (in), 15 -IN D (in), 16 OUT D (out)
part E pins: 4 +V (power), 8 NC, 9 NC, 13 -V (power)

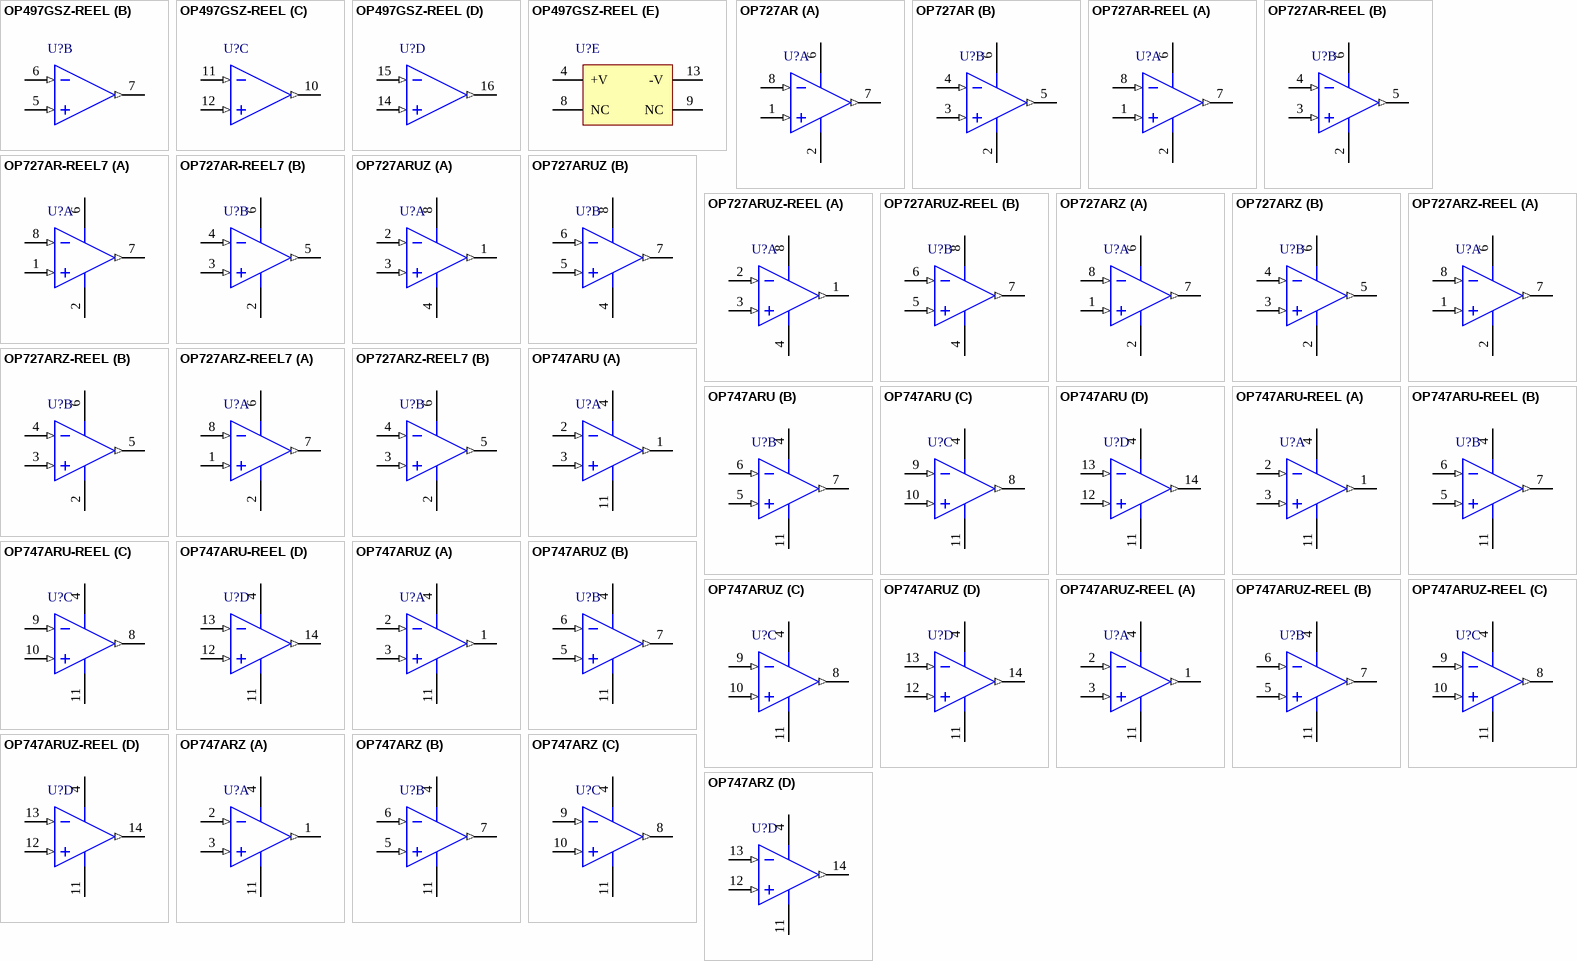
[diagram p111: symbols OP497GSZ-REEL to OP747ARZ]

## OP497GSZ-REEL
designator U?
Quad Channel Very Low Bias Current Operational Amplifier, 500 KHz BW, 150 mV/us SR, Industrial, 16-pin SOIC (RW-16), Reel; Generic Part Number: OP497; Manufacturer: Analog Devices; PartNumber: OP497GSZ-REEL; Amplifiers Per Package: 4; Input Bias Current: 60pA; Input Offset Voltage: 80uV; Iq/Amp: 625uA; Small Signal Bandwidth: 500KHz; V Span Max: 40V; V Span Min: 4V; DatasheetVersion: Rev. E; PackageVersion: 032707-B; PackageReference: RW-16; PackageDescription: 16-Pin Standard Small Outline Package, Body 10.3 x 7.5 mm, Pitch 1.27 mm; Supplier 1: Digi-Key; Supplier Part Number 1: OP497GSZ-REELTR-ND; Supplier 2: Digi-Key; Supplier Part Number 2: OP497GSZ-REELCT-ND; Supplier 3: Digi-Key; Supplier Part Number 3: OP497GSZ-REELDKR-ND; Supplier 4: Newark; Supplier Part Number 4: 59K8956; Packing: Reel; Slew Rate: 150mV/us; Mounting Technology: Surface Mount; Code_JEDEC: MS-013-AA; ComponentLink1Description: Manufacturer URL; ComponentLink1URL: http://www.analog.com/en/index.html; ComponentLink2Description: Datasheet; ComponentLink2URL: http://www.analog.com/static/imported-files/data_sheets/OP497.pdf; ComponentLink3Description: Package Specification; ComponentLink3URL: http://www.analog.com/static/imported-files/packages/PKG_PDF/SOIC_WIDE%20%28RW%29/RW_16.pdf
footprint ADI-RW-16_N (SOIC, 16-Leads, Body 10.3x7.5mm, Pitch 1.27mm,IPC Medium Density)
footprint ADI-RW-16_L (SOIC, 16-Leads, Body 10.3x7.5mm, Pitch 1.27mm, IPC High Density)
footprint ADI-RW-16_M (SOIC, 16-Leads, Body 10.3x7.5mm, Pitch 1.27mm, IPC Low Density)
part A pins: 1 OUT A (out), 2 -IN A (in), 3 +IN A (in)
part B pins: 5 +IN B (in), 6 -IN B (in), 7 OUT B (out)
part C pins: 10 OUT C (out), 11 -IN C (in), 12 +IN C (in)
part D pins: 14 +IN D (in), 15 -IN D (in), 16 OUT D (out)
part E pins: 4 +V (power), 8 NC, 9 NC, 13 -V (power)

## OP727AR
designator U?
Double Channel Rail-to-Rail Operational Amplifier, 700 KHz BW, 200 mV/us SR, Industrial, 8-pin SOIC (R-8), Tube; Generic Part Number: OP727; Manufacturer: Analog Devices; PartNumber: OP727AR; Amplifiers Per Package: 2; Input Bias Current: 5.5nA; Input Offset Voltage: 30uV; Iq/Amp: 290uA; Small Signal Bandwidth: 700KHz; V Span Max: 36V; V Span Min: 3V; DatasheetVersion: Rev. D; PackageVersion: 060506-A; PackageReference: R-8; PackageDescription: 8-Pin Standard Small Outline Package, Body 3.9 x 4.9 mm, Pitch 1.27 mm; Supplier 1: Digi-Key; Supplier Part Number 1: OP727AR-ND; Slew Rate: 200mV/us; Mounting Technology: Surface Mount; Code_JEDEC: MS-012-AA; ComponentLink1Description: Manufacturer URL; ComponentLink1URL: http://www.analog.com/en/index.html; ComponentLink2Description: Datasheet; ComponentLink2URL: http://www.analog.com/static/imported-files/data_sheets/OP777_727_747.pdf; ComponentLink3Description: Package Specification; ComponentLink3URL: http://www.analog.com/static/imported-files/packages/PKG_PDF/SOIC_Narrow%20(R)/R_8.pdf
footprint ADI-R-8_N (SOIC, 8-Leads, Body 4.9x3.9mm, Pitch 1.27mm, IPC Medium Density)
footprint ADI-R-8_L (SOIC, 8-Leads, Body 4.9x3.9mm, Pitch 1.27mm, IPC High Density)
footprint ADI-R-8_M (SOIC, 8-Leads, Body 4.9x3.9mm, Pitch 1.27mm, IPC Low Density)
pins on every part: 2 -V (power), 6 +V (power)
part A pins: 1 +IN A (in), 7 OUT A (out), 8 -IN A (in)
part B pins: 3 +IN B (in), 4 -IN B (in), 5 OUT B (out)

## OP727AR-REEL
designator U?
Double Channel Rail-to-Rail Operational Amplifier, 700 KHz BW, 200 mV/us SR, Industrial, 8-pin SOIC (R-8), Reel; Generic Part Number: OP727; Manufacturer: Analog Devices; PartNumber: OP727AR-REEL; Amplifiers Per Package: 2; Input Bias Current: 5.5nA; Input Offset Voltage: 30uV; Iq/Amp: 290uA; Small Signal Bandwidth: 700KHz; V Span Max: 36V; V Span Min: 3V; DatasheetVersion: Rev. D; PackageVersion: 060506-A; PackageReference: R-8; PackageDescription: 8-Pin Standard Small Outline Package, Body 3.9 x 4.9 mm, Pitch 1.27 mm; Supplier 1: Digi-Key; Supplier Part Number 1: OP727AR-REEL-ND; Supplier 2: Newark; Supplier Part Number 2: 02H2609; Slew Rate: 200mV/us; Mounting Technology: Surface Mount; Code_JEDEC: MS-012-AA; ComponentLink1Description: Manufacturer URL; ComponentLink1URL: http://www.analog.com/en/index.html; ComponentLink2Description: Datasheet; ComponentLink2URL: http://www.analog.com/static/imported-files/data_sheets/OP777_727_747.pdf; ComponentLink3Description: Package Specification; ComponentLink3URL: http://www.analog.com/static/imported-files/packages/PKG_PDF/SOIC_Narrow%20(R)/R_8.pdf
footprint ADI-R-8_N (SOIC, 8-Leads, Body 4.9x3.9mm, Pitch 1.27mm, IPC Medium Density)
footprint ADI-R-8_L (SOIC, 8-Leads, Body 4.9x3.9mm, Pitch 1.27mm, IPC High Density)
footprint ADI-R-8_M (SOIC, 8-Leads, Body 4.9x3.9mm, Pitch 1.27mm, IPC Low Density)
pins on every part: 2 -V (power), 6 +V (power)
part A pins: 1 +IN A (in), 7 OUT A (out), 8 -IN A (in)
part B pins: 3 +IN B (in), 4 -IN B (in), 5 OUT B (out)

## OP727AR-REEL7
designator U?
Double Channel Rail-to-Rail Operational Amplifier, 700 KHz BW, 200 mV/us SR, Industrial, 8-pin SOIC (R-8), Reel; Generic Part Number: OP727; Manufacturer: Analog Devices; PartNumber: OP727AR-REEL7; Amplifiers Per Package: 2; Input Bias Current: 5.5nA; Input Offset Voltage: 30uV; Iq/Amp: 290uA; Small Signal Bandwidth: 700KHz; V Span Max: 36V; V Span Min: 3V; DatasheetVersion: Rev. D; PackageVersion: 060506-A; PackageReference: R-8; PackageDescription: 8-Pin Standard Small Outline Package, Body 3.9 x 4.9 mm, Pitch 1.27 mm; Supplier 1: Digi-Key; Supplier Part Number 1: OP727AR-REEL7-ND; Slew Rate: 200mV/us; Mounting Technology: Surface Mount; Code_JEDEC: MS-012-AA; ComponentLink1Description: Manufacturer URL; ComponentLink1URL: http://www.analog.com/en/index.html; ComponentLink2Description: Datasheet; ComponentLink2URL: http://www.analog.com/static/imported-files/data_sheets/OP777_727_747.pdf; ComponentLink3Description: Package Specification; ComponentLink3URL: http://www.analog.com/static/imported-files/packages/PKG_PDF/SOIC_Narrow%20(R)/R_8.pdf
footprint ADI-R-8_N (SOIC, 8-Leads, Body 4.9x3.9mm, Pitch 1.27mm, IPC Medium Density)
footprint ADI-R-8_L (SOIC, 8-Leads, Body 4.9x3.9mm, Pitch 1.27mm, IPC High Density)
footprint ADI-R-8_M (SOIC, 8-Leads, Body 4.9x3.9mm, Pitch 1.27mm, IPC Low Density)
pins on every part: 2 -V (power), 6 +V (power)
part A pins: 1 +IN A (in), 7 OUT A (out), 8 -IN A (in)
part B pins: 3 +IN B (in), 4 -IN B (in), 5 OUT B (out)

## OP727ARUZ
designator U?
Double Channel Rail-to-Rail Operational Amplifier, 700 KHz BW, 200 mV/us SR, Industrial, 8-pin SOP (RU-8), Tube; Generic Part Number: OP727; Manufacturer: Analog Devices; PartNumber: OP727ARUZ; Amplifiers Per Package: 2; Input Bias Current: 5.5nA; Input Offset Voltage: 30uV; Iq/Amp: 290uA; Small Signal Bandwidth: 700KHz; V Span Max: 36V; V Span Min: 3V; DatasheetVersion: Rev. D; PackageReference: RU-8; PackageDescription: 8-Pin Thin Shrink Small Outline Package, Body 3 x 4.4 mm, Pitch 0.65 mm; Supplier 1: Digi-Key; Supplier Part Number 1: OP727ARUZ-ND; Supplier 2: Newark; Supplier Part Number 2: 59K8957; Slew Rate: 200mV/us; Mounting Technology: Surface Mount; Code_JEDEC: MO-153AA; ComponentLink1Description: Manufacturer URL; ComponentLink1URL: http://www.analog.com/en/index.html; ComponentLink2Description: Datasheet; ComponentLink2URL: http://www.analog.com/static/imported-files/data_sheets/OP777_727_747.pdf; ComponentLink3Description: Package Specification; ComponentLink3URL: http://www.analog.com/static/imported-files/packages/359224089841708504863856053953356548880RU08.pdf
footprint ADI-RU-8_N (SOP, 8-Leads, Body 4.4x3mm, Pitch 0.65mm, IPC Medium Density)
footprint ADI-RU-8_L (SOP, 8-Leads, Body 4.4x3mm, Pitch 0.65mm, IPC High Density)
footprint ADI-RU-8_M (SOP, 8-Leads, Body 4.4x3mm, Pitch 0.65mm, IPC Low Density)
pins on every part: 4 -V (power), 8 +V (power)
part A pins: 1 OUT A (out), 2 -IN A (in), 3 +IN A (in)
part B pins: 5 +IN B (in), 6 -IN B (in), 7 OUT B (out)

## OP727ARUZ-REEL
designator U?
Double Channel Rail-to-Rail Operational Amplifier, 700 KHz BW, 200 mV/us SR, Industrial, 8-pin SOP (RU-8), Reel; Generic Part Number: OP727; Manufacturer: Analog Devices; PartNumber: OP727ARUZ-REEL; Amplifiers Per Package: 2; Input Bias Current: 5.5nA; Input Offset Voltage: 30uV; Iq/Amp: 290uA; Small Signal Bandwidth: 700KHz; V Span Max: 36V; V Span Min: 3V; DatasheetVersion: Rev. D; PackageReference: RU-8; PackageDescription: 8-Pin Thin Shrink Small Outline Package, Body 3 x 4.4 mm, Pitch 0.65 mm; Supplier 1: Digi-Key; Supplier Part Number 1: OP727ARUZ-REELTR-ND; Supplier 2: Digi-Key; Supplier Part Number 2: OP727ARUZ-REELCT-ND; Supplier 3: Digi-Key; Supplier Part Number 3: OP727ARUZ-REELDKR-ND; Supplier 4: Newark; Supplier Part Number 4: 59K8958; Slew Rate: 200mV/us; Mounting Technology: Surface Mount; Code_JEDEC: MO-153AA; ComponentLink1Description: Manufacturer URL; ComponentLink1URL: http://www.analog.com/en/index.html; ComponentLink2Description: Datasheet; ComponentLink2URL: http://www.analog.com/static/imported-files/data_sheets/OP777_727_747.pdf; ComponentLink3Description: Package Specification; ComponentLink3URL: http://www.analog.com/static/imported-files/packages/359224089841708504863856053953356548880RU08.pdf
footprint ADI-RU-8_N (SOP, 8-Leads, Body 4.4x3mm, Pitch 0.65mm, IPC Medium Density)
footprint ADI-RU-8_L (SOP, 8-Leads, Body 4.4x3mm, Pitch 0.65mm, IPC High Density)
footprint ADI-RU-8_M (SOP, 8-Leads, Body 4.4x3mm, Pitch 0.65mm, IPC Low Density)
pins on every part: 4 -V (power), 8 +V (power)
part A pins: 1 OUT A (out), 2 -IN A (in), 3 +IN A (in)
part B pins: 5 +IN B (in), 6 -IN B (in), 7 OUT B (out)

## OP727ARZ
designator U?
Double Channel Rail-to-Rail Operational Amplifier, 700 KHz BW, 200 mV/us SR, Industrial, 8-pin SOIC (R-8), Tube; Generic Part Number: OP727; Manufacturer: Analog Devices; PartNumber: OP727ARZ; Amplifiers Per Package: 2; Input Bias Current: 5.5nA; Input Offset Voltage: 30uV; Iq/Amp: 290uA; Small Signal Bandwidth: 700KHz; V Span Max: 36V; V Span Min: 3V; DatasheetVersion: Rev. D; PackageVersion: 060506-A; PackageReference: R-8; PackageDescription: 8-Pin Standard Small Outline Package, Body 3.9 x 4.9 mm, Pitch 1.27 mm; Supplier 1: Digi-Key; Supplier Part Number 1: OP727ARZ-ND; Supplier 2: Farnell; Supplier Part Number 2: 9994432; Supplier 3: Newark; Supplier Part Number 3: 19M1034; Slew Rate: 200mV/us; Mounting Technology: Surface Mount; Code_JEDEC: MS-012-AA; ComponentLink1Description: Manufacturer URL; ComponentLink1URL: http://www.analog.com/en/index.html; ComponentLink2Description: Datasheet; ComponentLink2URL: http://www.analog.com/static/imported-files/data_sheets/OP777_727_747.pdf; ComponentLink3Description: Package Specification; ComponentLink3URL: http://www.analog.com/static/imported-files/packages/PKG_PDF/SOIC_Narrow%20(R)/R_8.pdf
footprint ADI-R-8_N (SOIC, 8-Leads, Body 4.9x3.9mm, Pitch 1.27mm, IPC Medium Density)
footprint ADI-R-8_L (SOIC, 8-Leads, Body 4.9x3.9mm, Pitch 1.27mm, IPC High Density)
footprint ADI-R-8_M (SOIC, 8-Leads, Body 4.9x3.9mm, Pitch 1.27mm, IPC Low Density)
pins on every part: 2 -V (power), 6 +V (power)
part A pins: 1 +IN A (in), 7 OUT A (out), 8 -IN A (in)
part B pins: 3 +IN B (in), 4 -IN B (in), 5 OUT B (out)

## OP727ARZ-REEL
designator U?
Double Channel Rail-to-Rail Operational Amplifier, 700 KHz BW, 200 mV/us SR, Industrial, 8-pin SOIC (R-8), Reel; Generic Part Number: OP727; Manufacturer: Analog Devices; PartNumber: OP727ARZ-REEL; Amplifiers Per Package: 2; Input Bias Current: 5.5nA; Input Offset Voltage: 30uV; Iq/Amp: 290uA; Small Signal Bandwidth: 700KHz; V Span Max: 36V; V Span Min: 3V; DatasheetVersion: Rev. D; PackageVersion: 060506-A; PackageReference: R-8; PackageDescription: 8-Pin Standard Small Outline Package, Body 3.9 x 4.9 mm, Pitch 1.27 mm; Supplier 1: Digi-Key; Supplier Part Number 1: OP727ARZ-REEL-ND; Supplier 2: Newark; Supplier Part Number 2: 59K8960; Slew Rate: 200mV/us; Mounting Technology: Surface Mount; Code_JEDEC: MS-012-AA; ComponentLink1Description: Manufacturer URL; ComponentLink1URL: http://www.analog.com/en/index.html; ComponentLink2Description: Datasheet; ComponentLink2URL: http://www.analog.com/static/imported-files/data_sheets/OP777_727_747.pdf; ComponentLink3Description: Package Specification; ComponentLink3URL: http://www.analog.com/static/imported-files/packages/PKG_PDF/SOIC_Narrow%20(R)/R_8.pdf
footprint ADI-R-8_N (SOIC, 8-Leads, Body 4.9x3.9mm, Pitch 1.27mm, IPC Medium Density)
footprint ADI-R-8_L (SOIC, 8-Leads, Body 4.9x3.9mm, Pitch 1.27mm, IPC High Density)
footprint ADI-R-8_M (SOIC, 8-Leads, Body 4.9x3.9mm, Pitch 1.27mm, IPC Low Density)
pins on every part: 2 -V (power), 6 +V (power)
part A pins: 1 +IN A (in), 7 OUT A (out), 8 -IN A (in)
part B pins: 3 +IN B (in), 4 -IN B (in), 5 OUT B (out)

## OP727ARZ-REEL7
designator U?
Double Channel Rail-to-Rail Operational Amplifier, 700 KHz BW, 200 mV/us SR, Industrial, 8-pin SOIC (R-8), Reel; Generic Part Number: OP727; Manufacturer: Analog Devices; PartNumber: OP727ARZ-REEL7; Amplifiers Per Package: 2; Input Bias Current: 5.5nA; Input Offset Voltage: 30uV; Iq/Amp: 290uA; Small Signal Bandwidth: 700KHz; V Span Max: 36V; V Span Min: 3V; DatasheetVersion: Rev. D; PackageVersion: 060506-A; PackageReference: R-8; PackageDescription: 8-Pin Standard Small Outline Package, Body 3.9 x 4.9 mm, Pitch 1.27 mm; Supplier 1: Digi-Key; Supplier Part Number 1: OP727ARZ-REEL7-ND; Supplier 2: Newark; Supplier Part Number 2: 59K8961; Slew Rate: 200mV/us; Mounting Technology: Surface Mount; Code_JEDEC: MS-012-AA; ComponentLink1Description: Manufacturer URL; ComponentLink1URL: http://www.analog.com/en/index.html; ComponentLink2Description: Datasheet; ComponentLink2URL: http://www.analog.com/static/imported-files/data_sheets/OP777_727_747.pdf; ComponentLink3Description: Package Specification; ComponentLink3URL: http://www.analog.com/static/imported-files/packages/PKG_PDF/SOIC_Narrow%20(R)/R_8.pdf
footprint ADI-R-8_N (SOIC, 8-Leads, Body 4.9x3.9mm, Pitch 1.27mm, IPC Medium Density)
footprint ADI-R-8_L (SOIC, 8-Leads, Body 4.9x3.9mm, Pitch 1.27mm, IPC High Density)
footprint ADI-R-8_M (SOIC, 8-Leads, Body 4.9x3.9mm, Pitch 1.27mm, IPC Low Density)
pins on every part: 2 -V (power), 6 +V (power)
part A pins: 1 +IN A (in), 7 OUT A (out), 8 -IN A (in)
part B pins: 3 +IN B (in), 4 -IN B (in), 5 OUT B (out)

## OP747ARU
designator U?
Quad Channel Rail-to-Rail Operational Amplifier, 700 KHz BW, 200 mV/us SR, Industrial, 14-pin SOP (RU-14), Tube; Generic Part Number: OP747; Manufacturer: Analog Devices; PartNumber: OP747ARU; Amplifiers Per Package: 4; Input Bias Current: 5.5nA; Input Offset Voltage: 30uV; Iq/Amp: 290uA; Small Signal Bandwidth: 700KHz; V Span Max: 36V; V Span Min: 3V; DatasheetVersion: Rev. D; PackageReference: RU-14; PackageDescription: 14-Pin Thin Shrink Small Outline Package, Body 5 x 4.4 mm, Pitch 0.65 mm; Supplier 1: Digi-Key; Supplier Part Number 1: OP747ARU-ND; Slew Rate: 200mV/us; Mounting Technology: Surface Mount; Code_JEDEC: MO-153AB-1; ComponentLink1Description: Manufacturer URL; ComponentLink1URL: http://www.analog.com/en/index.html; ComponentLink2Description: Datasheet; ComponentLink2URL: http://www.analog.com/static/imported-files/data_sheets/OP777_727_747.pdf; ComponentLink3Description: Package Specification; ComponentLink3URL: http://www.analog.com/static/imported-files/packages/36057385283879153717235186773RU14.pdf
footprint ADI-RU-14_N (SOP, 14-Leads, Body 5x4.4mm, Pitch 0.65mm, IPC Medium Density)
footprint ADI-RU-14_L (SOP, 14-Leads, Body 5x4.4mm, Pitch 0.65mm, IPC High Density)
footprint ADI-RU-14_M (SOP, 14-Leads, Body 5x4.4mm, Pitch 0.65mm, IPC Low Density)
pins on every part: 4 +V (power), 11 -V (power)
part A pins: 1 OUT A (out), 2 -IN A (in), 3 +IN A (in)
part B pins: 5 +IN B (in), 6 -IN B (in), 7 OUT B (out)
part C pins: 8 OUT C (out), 9 -IN C (in), 10 +IN C (in)
part D pins: 12 +IN D (in), 13 -IN D (in), 14 OUT D (out)